# Altium integrated library Capacitor - Aluminium TH.IntLib: 4591 symbols (part 43 of 68)
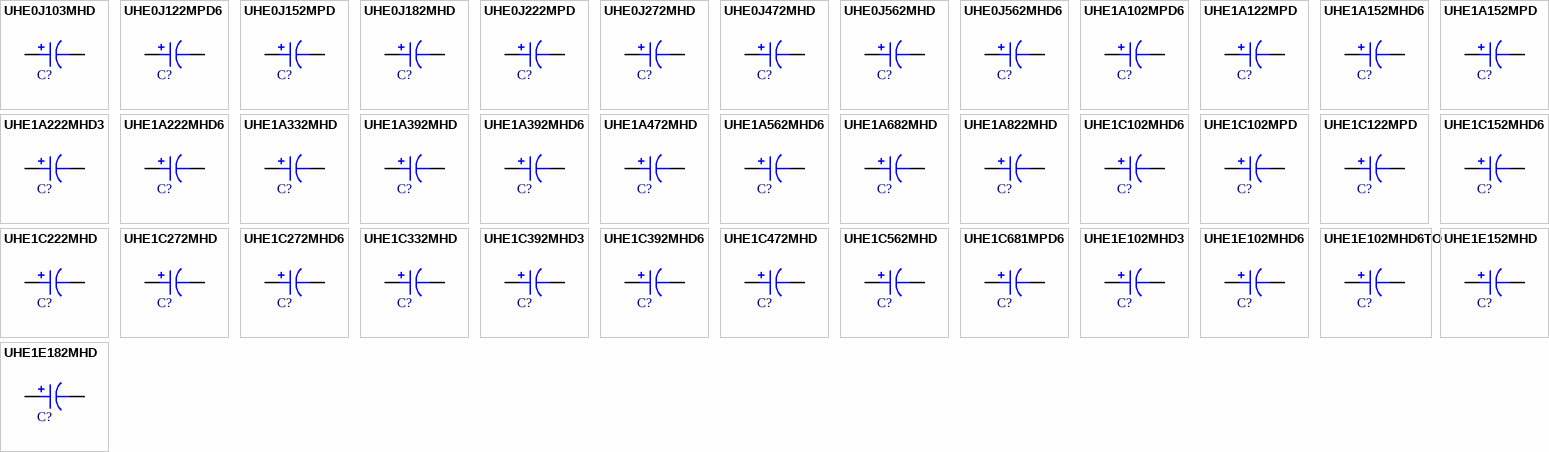
[diagram p156: symbols UHE0J103MHD to UHE1E182MHD]

## UHE0J272MHD
designator C?, comment 2700uF  (value not drawn)
CAP ALUM 2700UF 20% 6.3V RADIAL; Part Number: UHE0J272MHD; Manufacturer: Nichicon; TemperatureRange: -40C ~ 105C; Type: Polar; Ripple Current: 1.552A @ 120Hz; Impedance: 42 mOhm; Value: 2700uF; PartId: 26207; Supplier 1: Digi-Key; Supplier Part Number 1: 493-1474-ND; ComponentLink1Description: Datasheet; ComponentLink1URL: http://nichicon-us.com/english/products/pdfs/e-uhe.pdf; ComponentLink2Description: Digi-Key Listing; ComponentLink2URL: https://www.digikey.com/product-detail/en/nichicon/UHE0J272MHD/493-1474-ND/589215; Tolerance: 20%; Voltage: 6.3V; Price: 0.76; Device Package: Radial, Can, 16mm
footprint CAP AL TH D16 L7.5 H16.5
pins: 1, 2

## UHE0J472MHD
designator C?, comment 4700uF  (value not drawn)
CAP ALUM 4700UF 20% 6.3V RADIAL; Part Number: UHE0J472MHD; Manufacturer: Nichicon; TemperatureRange: -40C ~ 105C; Type: Polar; Ripple Current: 2.12A @ 120Hz; Impedance: 24 mOhm; Value: 4700uF; PartId: 24243; Supplier 1: Digi-Key; Supplier Part Number 1: 493-1478-ND; ComponentLink1Description: Datasheet; ComponentLink1URL: http://nichicon-us.com/english/products/pdfs/e-uhe.pdf; ComponentLink2Description: Digi-Key Listing; ComponentLink2URL: https://www.digikey.com/product-detail/en/nichicon/UHE0J472MHD/493-1478-ND/589219; Tolerance: 20%; Voltage: 6.3V; Price: 1.01; Device Package: Radial, Can, 12.5mm
footprint CAP AL TH D12.5 L5 H35.5
pins: 1, 2

## UHE0J562MHD
designator C?, comment 5600uF  (value not drawn)
CAP ALUM 5600UF 20% 6.3V RADIAL; Part Number: UHE0J562MHD; Manufacturer: Nichicon; TemperatureRange: -40C ~ 105C; Type: Polar; Ripple Current: 2.304A @ 120Hz; Impedance: 20 mOhm; Value: 5600uF; PartId: 24231; Supplier 1: Digi-Key; Supplier Part Number 1: 493-1479-ND; ComponentLink1Description: Datasheet; ComponentLink1URL: http://nichicon-us.com/english/products/pdfs/e-uhe.pdf; ComponentLink2Description: Digi-Key Listing; ComponentLink2URL: https://www.digikey.com/product-detail/en/nichicon/UHE0J562MHD/493-1479-ND/589220; Tolerance: 20%; Voltage: 6.3V; Price: 0.98; Device Package: Radial, Can, 12.5mm
footprint CAP AL TH D12.5 L5 H35.5
pins: 1, 2

## UHE0J562MHD6
designator C?, comment 5600uF  (value not drawn)
CAP ALUM 5600UF 20% 6.3V RADIAL; Part Number: UHE0J562MHD6; Manufacturer: Nichicon; TemperatureRange: -40C ~ 105C; Type: Polar; Ripple Current: 2.024A @ 120Hz; Impedance: 27 mOhm; Value: 5600uF; PartId: 26284; Supplier 1: Digi-Key; Supplier Part Number 1: 493-1480-ND; ComponentLink1Description: Datasheet; ComponentLink1URL: http://nichicon-us.com/english/products/pdfs/e-uhe.pdf; ComponentLink2Description: Digi-Key Listing; ComponentLink2URL: https://www.digikey.com/product-detail/en/nichicon/UHE0J562MHD6/493-1480-ND/589221; Tolerance: 20%; Voltage: 6.3V; Price: 1; Device Package: Radial, Can, 16mm
footprint CAP AL TH D16 L7.5 H20
pins: 1, 2

## UHE1A102MPD6
designator C?, comment 1000uF  (value not drawn)
CAP ALUM 1000UF 20% 10V RADIAL; Part Number: UHE1A102MPD6; Manufacturer: Nichicon; TemperatureRange: -40C ~ 105C; Type: Polar; Ripple Current: 907.5mA @ 120Hz; Impedance: 60 mOhm; Value: 1000uF; PartId: 25242; Supplier 1: Digi-Key; Supplier Part Number 1: 493-1497-ND; ComponentLink1Description: Datasheet; ComponentLink1URL: http://nichicon-us.com/english/products/pdfs/e-uhe.pdf; ComponentLink2Description: Digi-Key Listing; ComponentLink2URL: https://www.digikey.com/product-detail/en/nichicon/UHE1A102MPD6/493-1497-ND/589238; Tolerance: 20%; Voltage: 10V; Price: 0.57; Device Package: Radial, Can, 10mm
footprint CAP AL TH D10 L5 H17.5
pins: 1, 2

## UHE1A122MPD
designator C?, comment 1200uF  (value not drawn)
CAP ALUM 1200UF 20% 10V RADIAL; Part Number: UHE1A122MPD; Manufacturer: Nichicon; TemperatureRange: -40C ~ 105C; Type: Polar; Ripple Current: 1.12A @ 120Hz; Impedance: 46 mOhm; Value: 1200uF; PartId: 25527; Supplier 1: Digi-Key; Supplier Part Number 1: 493-1498-ND; ComponentLink1Description: Datasheet; ComponentLink1URL: http://nichicon-us.com/english/products/pdfs/e-uhe.pdf; ComponentLink2Description: Digi-Key Listing; ComponentLink2URL: https://www.digikey.com/product-detail/en/nichicon/UHE1A122MPD/493-1498-ND/589239; Tolerance: 20%; Voltage: 10V; Price: 0.6; Device Package: Radial, Can, 10mm
footprint CAP AL TH D10 L5 H22
pins: 1, 2

## UHE1A152MHD6
designator C?, comment 1500uF  (value not drawn)
CAP ALUM 1500UF 20% 10V RADIAL; Part Number: UHE1A152MHD6; Manufacturer: Nichicon; TemperatureRange: -40C ~ 105C; Type: Polar; Ripple Current: 1.16A @ 120Hz; Impedance: 49 mOhm; Value: 1500uF; PartId: 22707; Supplier 1: Digi-Key; Supplier Part Number 1: 493-1500-ND; ComponentLink1Description: Datasheet; ComponentLink1URL: http://nichicon-us.com/english/products/pdfs/e-uhe.pdf; ComponentLink2Description: Digi-Key Listing; ComponentLink2URL: https://www.digikey.com/product-detail/en/nichicon/UHE1A152MHD6/493-1500-ND/589241; Tolerance: 20%; Voltage: 10V; Price: 0; Device Package: Radial, Can, 12.5mm
footprint CAP AL TH D12.5 L5 H15
pins: 1, 2

## UHE1A152MPD
designator C?, comment 1500uF  (value not drawn)
CAP ALUM 1500UF 20% 10V RADIAL; Part Number: UHE1A152MPD; Manufacturer: Nichicon; TemperatureRange: -40C ~ 105C; Type: Polar; Ripple Current: 1.32A @ 120Hz; Impedance: 42 mOhm; Value: 1500uF; PartId: 26056; Supplier 1: Digi-Key; Supplier Part Number 1: 493-1499-ND; ComponentLink1Description: Datasheet; ComponentLink1URL: http://nichicon-us.com/english/products/pdfs/e-uhe.pdf; ComponentLink2Description: Digi-Key Listing; ComponentLink2URL: https://www.digikey.com/product-detail/en/nichicon/UHE1A152MPD/493-1499-ND/589240; Tolerance: 20%; Voltage: 10V; Price: 0.66; Device Package: Radial, Can, 10mm
footprint CAP AL TH D10 L5 H30
pins: 1, 2

## UHE1A222MHD3
designator C?, comment 2200uF  (value not drawn)
CAP ALUM 2200UF 20% 10V RADIAL; Part Number: UHE1A222MHD3; Manufacturer: Nichicon; TemperatureRange: -40C ~ 105C; Type: Polar; Ripple Current: 1.552A @ 120Hz; Impedance: 42 mOhm; Value: 2200uF; PartId: 26257; Supplier 1: Digi-Key; Supplier Part Number 1: 493-1503-ND; ComponentLink1Description: Datasheet; ComponentLink1URL: http://nichicon-us.com/english/products/pdfs/e-uhe.pdf; ComponentLink2Description: Digi-Key Listing; ComponentLink2URL: https://www.digikey.com/product-detail/en/nichicon/UHE1A222MHD3/493-1503-ND/589244; Tolerance: 20%; Voltage: 10V; Price: 0.94; Device Package: Radial, Can, 16mm
footprint CAP AL TH D16 L7.5 H16.5
pins: 1, 2

## UHE1A222MHD6
designator C?, comment 2200uF  (value not drawn)
CAP ALUM 2200UF 20% 10V RADIAL; Part Number: UHE1A222MHD6; Manufacturer: Nichicon; TemperatureRange: -40C ~ 105C; Type: Polar; Ripple Current: 1.52A @ 120Hz; Impedance: 35 mOhm; Value: 2200uF; PartId: 23339; Supplier 1: Digi-Key; Supplier Part Number 1: 493-1502-ND; ComponentLink1Description: Datasheet; ComponentLink1URL: http://nichicon-us.com/english/products/pdfs/e-uhe.pdf; ComponentLink2Description: Digi-Key Listing; ComponentLink2URL: https://www.digikey.com/product-detail/en/nichicon/UHE1A222MHD6/493-1502-ND/589243; Tolerance: 20%; Voltage: 10V; Price: 0.84; Device Package: Radial, Can, 12.5mm
footprint CAP AL TH D12.5 L5 H22
pins: 1, 2

## UHE1A332MHD
designator C?, comment 3300uF  (value not drawn)
CAP ALUM 3300UF 20% 10V RADIAL; Part Number: UHE1A332MHD; Manufacturer: Nichicon; TemperatureRange: -40C ~ 105C; Type: Polar; Ripple Current: 1.784A @ 120Hz; Impedance: 27 mOhm; Value: 3300uF; PartId: 23546; Supplier 1: Digi-Key; Supplier Part Number 1: 493-1505-ND; ComponentLink1Description: Datasheet; ComponentLink1URL: http://nichicon-us.com/english/products/pdfs/e-uhe.pdf; ComponentLink2Description: Digi-Key Listing; ComponentLink2URL: https://www.digikey.com/product-detail/en/nichicon/UHE1A332MHD/493-1505-ND/589246; Tolerance: 20%; Voltage: 10V; Price: 0.83; Device Package: Radial, Can, 12.5mm
footprint CAP AL TH D12.5 L5 H25
pins: 1, 2

## UHE1A392MHD
designator C?, comment 3900uF  (value not drawn)
CAP ALUM 3900UF 20% 10V RADIAL; Part Number: UHE1A392MHD; Manufacturer: Nichicon; TemperatureRange: -40C ~ 105C; Type: Polar; Ripple Current: 2.12A @ 120Hz; Impedance: 24 mOhm; Value: 3900uF; PartId: 24233; Supplier 1: Digi-Key; Supplier Part Number 1: 493-1506-ND; ComponentLink1Description: Datasheet; ComponentLink1URL: http://nichicon-us.com/english/products/pdfs/e-uhe.pdf; ComponentLink2Description: Digi-Key Listing; ComponentLink2URL: https://www.digikey.com/product-detail/en/nichicon/UHE1A392MHD/493-1506-ND/589247; Tolerance: 20%; Voltage: 10V; Price: 0.98; Device Package: Radial, Can, 12.5mm
footprint CAP AL TH D12.5 L5 H35.5
pins: 1, 2

## UHE1A392MHD6
designator C?, comment 3900uF  (value not drawn)
CAP ALUM 3900UF 20% 10V RADIAL; Part Number: UHE1A392MHD6; Manufacturer: Nichicon; TemperatureRange: -40C ~ 105C; Type: Polar; Ripple Current: 2.024A @ 120Hz; Impedance: 27 mOhm; Value: 3900uF; PartId: 26281; Supplier 1: Digi-Key; Supplier Part Number 1: 493-1507-ND; ComponentLink1Description: Datasheet; ComponentLink1URL: http://nichicon-us.com/english/products/pdfs/e-uhe.pdf; ComponentLink2Description: Digi-Key Listing; ComponentLink2URL: https://www.digikey.com/product-detail/en/nichicon/UHE1A392MHD6/493-1507-ND/589248; Tolerance: 20%; Voltage: 10V; Price: 0.98; Device Package: Radial, Can, 16mm
footprint CAP AL TH D16 L7.5 H20
pins: 1, 2

## UHE1A472MHD
designator C?, comment 4700uF  (value not drawn)
CAP ALUM 4700UF 20% 10V RADIAL; Part Number: UHE1A472MHD; Manufacturer: Nichicon; TemperatureRange: -40C ~ 105C; Type: Polar; Ripple Current: 2.304A @ 120Hz; Impedance: 20 mOhm; Value: 4700uF; PartId: 24274; Supplier 1: Digi-Key; Supplier Part Number 1: 493-1508-ND; ComponentLink1Description: Datasheet; ComponentLink1URL: http://nichicon-us.com/english/products/pdfs/e-uhe.pdf; ComponentLink2Description: Digi-Key Listing; ComponentLink2URL: https://www.digikey.com/product-detail/en/nichicon/UHE1A472MHD/493-1508-ND/589249; Tolerance: 20%; Voltage: 10V; Price: 1.07; Device Package: Radial, Can, 12.5mm
footprint CAP AL TH D12.5 L5 H35.5
pins: 1, 2

## UHE1A562MHD6
designator C?, comment 5600uF  (value not drawn)
CAP ALUM 5600UF 20% 10V RADIAL; Part Number: UHE1A562MHD6; Manufacturer: Nichicon; TemperatureRange: -40C ~ 105C; Type: Polar; Ripple Current: 2.344A @ 120Hz; Impedance: 21 mOhm; Value: 5600uF; PartId: 26603; Supplier 1: Digi-Key; Supplier Part Number 1: 493-1510-ND; ComponentLink1Description: Datasheet; ComponentLink1URL: http://nichicon-us.com/english/products/pdfs/e-uhe.pdf; ComponentLink2Description: Digi-Key Listing; ComponentLink2URL: https://www.digikey.com/product-detail/en/nichicon/UHE1A562MHD6/493-1510-ND/589251; Tolerance: 20%; Voltage: 10V; Price: 1.34; Device Package: Radial, Can, 16mm
footprint CAP AL TH D16 L7.5 H26.5
pins: 1, 2

## UHE1A682MHD
designator C?, comment 6800uF  (value not drawn)
CAP ALUM 6800UF 20% 10V RADIAL; Part Number: UHE1A682MHD; Manufacturer: Nichicon; TemperatureRange: -40C ~ 105C; Type: Polar; Ripple Current: 2.76A @ 120Hz; Impedance: 17 mOhm; Value: 6800uF; PartId: 27034; Supplier 1: Digi-Key; Supplier Part Number 1: 493-1512-ND; ComponentLink1Description: Datasheet; ComponentLink1URL: http://nichicon-us.com/english/products/pdfs/e-uhe.pdf; ComponentLink2Description: Digi-Key Listing; ComponentLink2URL: https://www.digikey.com/product-detail/en/nichicon/UHE1A682MHD/493-1512-ND/589253; Tolerance: 20%; Voltage: 10V; Price: 1.52; Device Package: Radial, Can, 16mm
footprint CAP AL TH D16 L7.5 H33.5
pins: 1, 2

## UHE1A822MHD
designator C?, comment 8200uF  (value not drawn)
CAP ALUM 8200UF 20% 10V RADIAL; Part Number: UHE1A822MHD; Manufacturer: Nichicon; TemperatureRange: -40C ~ 105C; Type: Polar; Ripple Current: 2.888A @ 120Hz; Impedance: 15 mOhm; Value: 8200uF; PartId: 27376; Supplier 1: Digi-Key; Supplier Part Number 1: 493-1514-ND; ComponentLink1Description: Datasheet; ComponentLink1URL: http://nichicon-us.com/english/products/pdfs/e-uhe.pdf; ComponentLink2Description: Digi-Key Listing; ComponentLink2URL: https://www.digikey.com/product-detail/en/nichicon/UHE1A822MHD/493-1514-ND/589255; Tolerance: 20%; Voltage: 10V; Price: 1.81; Device Package: Radial, Can, 16mm
footprint CAP AL TH D16 L7.5 H37
pins: 1, 2

## UHE1C102MHD6
designator C?, comment 1000uF  (value not drawn)
CAP ALUM 1000UF 20% 16V RADIAL; Part Number: UHE1C102MHD6; Manufacturer: Nichicon; TemperatureRange: -40C ~ 105C; Type: Polar; Ripple Current: 1.0875A @ 120Hz; Impedance: 49 mOhm; Value: 1000uF; PartId: 22708; Supplier 1: Digi-Key; Supplier Part Number 1: 493-1527-ND; ComponentLink1Description: Datasheet; ComponentLink1URL: http://nichicon-us.com/english/products/pdfs/e-uhe.pdf; ComponentLink2Description: Digi-Key Listing; ComponentLink2URL: https://www.digikey.com/product-detail/en/nichicon/UHE1C102MHD6/493-1527-ND/589268; Tolerance: 20%; Voltage: 16V; Price: 0; Device Package: Radial, Can, 12.5mm
footprint CAP AL TH D12.5 L5 H15
pins: 1, 2

## UHE1C102MPD
designator C?, comment 1000uF  (value not drawn)
CAP ALUM 1000UF 20% 16V RADIAL; Part Number: UHE1C102MPD; Manufacturer: Nichicon; TemperatureRange: -40C ~ 105C; Type: Polar; Ripple Current: 1.05A @ 120Hz; Impedance: 46 mOhm; Value: 1000uF; PartId: 25530; Supplier 1: Digi-Key; Supplier Part Number 1: 493-1526-ND; ComponentLink1Description: Datasheet; ComponentLink1URL: http://nichicon-us.com/english/products/pdfs/e-uhe.pdf; ComponentLink2Description: Digi-Key Listing; ComponentLink2URL: https://www.digikey.com/product-detail/en/nichicon/UHE1C102MPD/493-1526-ND/589267; Tolerance: 20%; Voltage: 16V; Price: 0.61; Device Package: Radial, Can, 10mm
footprint CAP AL TH D10 L5 H22
pins: 1, 2

## UHE1C122MPD
designator C?, comment 1200uF  (value not drawn)
CAP ALUM 1200UF 20% 16V RADIAL; Part Number: UHE1C122MPD; Manufacturer: Nichicon; TemperatureRange: -40C ~ 105C; Type: Polar; Ripple Current: 1.32A @ 120Hz; Impedance: 42 mOhm; Value: 1200uF; PartId: 26150; Supplier 1: Digi-Key; Supplier Part Number 1: 493-1528-ND; ComponentLink1Description: Datasheet; ComponentLink1URL: http://nichicon-us.com/english/products/pdfs/e-uhe.pdf; ComponentLink2Description: Digi-Key Listing; ComponentLink2URL: https://www.digikey.com/product-detail/en/nichicon/UHE1C122MPD/493-1528-ND/589269; Tolerance: 20%; Voltage: 16V; Price: 0.85; Device Package: Radial, Can, 10mm
footprint CAP AL TH D10 L5 H30
pins: 1, 2

## UHE1C152MHD6
designator C?, comment 1500uF  (value not drawn)
CAP ALUM 1500UF 20% 16V RADIAL; Part Number: UHE1C152MHD6; Manufacturer: Nichicon; TemperatureRange: -40C ~ 105C; Type: Polar; Ripple Current: 1.52A @ 120Hz; Impedance: 35 mOhm; Value: 1500uF; PartId: 22900; Supplier 1: Digi-Key; Supplier Part Number 1: 493-1530-ND; ComponentLink1Description: Datasheet; ComponentLink1URL: http://nichicon-us.com/english/products/pdfs/e-uhe.pdf; ComponentLink2Description: Digi-Key Listing; ComponentLink2URL: https://www.digikey.com/product-detail/en/nichicon/UHE1C152MHD6/493-1530-ND/589271; Tolerance: 20%; Voltage: 16V; Price: 0; Device Package: Radial, Can, 12.5mm
footprint CAP AL TH D12.5 L5 H20
pins: 1, 2

## UHE1C222MHD
designator C?, comment 2200uF  (value not drawn)
CAP ALUM 2200UF 20% 16V RADIAL; Part Number: UHE1C222MHD; Manufacturer: Nichicon; TemperatureRange: -40C ~ 105C; Type: Polar; Ripple Current: 1.784A @ 120Hz; Impedance: 27 mOhm; Value: 2200uF; PartId: 23572; Supplier 1: Digi-Key; Supplier Part Number 1: 493-1532-ND; ComponentLink1Description: Datasheet; ComponentLink1URL: http://nichicon-us.com/english/products/pdfs/e-uhe.pdf; ComponentLink2Description: Digi-Key Listing; ComponentLink2URL: https://www.digikey.com/product-detail/en/nichicon/UHE1C222MHD/493-1532-ND/589273; Tolerance: 20%; Voltage: 16V; Price: 0.96; Device Package: Radial, Can, 12.5mm
footprint CAP AL TH D12.5 L5 H25
pins: 1, 2

## UHE1C272MHD
designator C?, comment 2700uF  (value not drawn)
CAP ALUM 2700UF 20% 16V RADIAL; Part Number: UHE1C272MHD; Manufacturer: Nichicon; TemperatureRange: -40C ~ 105C; Type: Polar; Ripple Current: 2.12A @ 120Hz; Impedance: 24 mOhm; Value: 2700uF; PartId: 24215; Supplier 1: Digi-Key; Supplier Part Number 1: 493-1534-ND; ComponentLink1Description: Datasheet; ComponentLink1URL: http://nichicon-us.com/english/products/pdfs/e-uhe.pdf; ComponentLink2Description: Digi-Key Listing; ComponentLink2URL: https://www.digikey.com/product-detail/en/nichicon/UHE1C272MHD/493-1534-ND/589275; Tolerance: 20%; Voltage: 16V; Price: 0.95; Device Package: Radial, Can, 12.5mm
footprint CAP AL TH D12.5 L5 H35.5
pins: 1, 2

## UHE1C272MHD6
designator C?, comment 2700uF  (value not drawn)
CAP ALUM 2700UF 20% 16V RADIAL; Part Number: UHE1C272MHD6; Manufacturer: Nichicon; TemperatureRange: -40C ~ 105C; Type: Polar; Ripple Current: 2.024A @ 120Hz; Impedance: 27 mOhm; Value: 2700uF; PartId: 26278; Supplier 1: Digi-Key; Supplier Part Number 1: 493-1535-ND; ComponentLink1Description: Datasheet; ComponentLink1URL: http://nichicon-us.com/english/products/pdfs/e-uhe.pdf; ComponentLink2Description: Digi-Key Listing; ComponentLink2URL: https://www.digikey.com/product-detail/en/nichicon/UHE1C272MHD6/493-1535-ND/589276; Tolerance: 20%; Voltage: 16V; Price: 0.95; Device Package: Radial, Can, 16mm
footprint CAP AL TH D16 L7.5 H20
pins: 1, 2

## UHE1C332MHD
designator C?, comment 3300uF  (value not drawn)
CAP ALUM 3300UF 20% 16V RADIAL; Part Number: UHE1C332MHD; Manufacturer: Nichicon; TemperatureRange: -40C ~ 105C; Type: Polar; Ripple Current: 2.304A @ 120Hz; Impedance: 20 mOhm; Value: 3300uF; PartId: 24276; Supplier 1: Digi-Key; Supplier Part Number 1: 493-1536-ND; ComponentLink1Description: Datasheet; ComponentLink1URL: http://nichicon-us.com/english/products/pdfs/e-uhe.pdf; ComponentLink2Description: Digi-Key Listing; ComponentLink2URL: https://www.digikey.com/product-detail/en/nichicon/UHE1C332MHD/493-1536-ND/589277; Tolerance: 20%; Voltage: 16V; Price: 1.08; Device Package: Radial, Can, 12.5mm
footprint CAP AL TH D12.5 L5 H35.5
pins: 1, 2

## UHE1C392MHD3
designator C?, comment 3900uF  (value not drawn)
CAP ALUM 3900UF 20% 16V RADIAL; Part Number: UHE1C392MHD3; Manufacturer: Nichicon; TemperatureRange: -40C ~ 105C; Type: Polar; Ripple Current: 2.288A @ 120Hz; Impedance: 26 mOhm; Value: 3900uF; PartId: 26311; Supplier 1: Digi-Key; Supplier Part Number 1: 493-1539-ND; ComponentLink1Description: Datasheet; ComponentLink1URL: http://nichicon-us.com/english/products/pdfs/e-uhe.pdf; ComponentLink2Description: Digi-Key Listing; ComponentLink2URL: https://www.digikey.com/product-detail/en/nichicon/UHE1C392MHD3/493-1539-ND/589280; Tolerance: 20%; Voltage: 16V; Price: 1.2; Device Package: Radial, Can, 16mm
footprint CAP AL TH D16 L7.5 H20
pins: 1, 2

## UHE1C392MHD6
designator C?, comment 3900uF  (value not drawn)
CAP ALUM 3900UF 20% 16V RADIAL; Part Number: UHE1C392MHD6; Manufacturer: Nichicon; TemperatureRange: -40C ~ 105C; Type: Polar; Ripple Current: 2.344A @ 120Hz; Impedance: 21 mOhm; Value: 3900uF; PartId: 26650; Supplier 1: Digi-Key; Supplier Part Number 1: 493-1538-ND; ComponentLink1Description: Datasheet; ComponentLink1URL: http://nichicon-us.com/english/products/pdfs/e-uhe.pdf; ComponentLink2Description: Digi-Key Listing; ComponentLink2URL: https://www.digikey.com/product-detail/en/nichicon/UHE1C392MHD6/493-1538-ND/589279; Tolerance: 20%; Voltage: 16V; Price: 1.55; Device Package: Radial, Can, 16mm
footprint CAP AL TH D16 L7.5 H26.5
pins: 1, 2

## UHE1C472MHD
designator C?, comment 4700uF  (value not drawn)
CAP ALUM 4700UF 20% 16V RADIAL; Part Number: UHE1C472MHD; Manufacturer: Nichicon; TemperatureRange: -40C ~ 105C; Type: Polar; Ripple Current: 2.76A @ 120Hz; Impedance: 17 mOhm; Value: 4700uF; PartId: 27029; Supplier 1: Digi-Key; Supplier Part Number 1: 493-1540-ND; ComponentLink1Description: Datasheet; ComponentLink1URL: http://nichicon-us.com/english/products/pdfs/e-uhe.pdf; ComponentLink2Description: Digi-Key Listing; ComponentLink2URL: https://www.digikey.com/product-detail/en/nichicon/UHE1C472MHD/493-1540-ND/589281; Tolerance: 20%; Voltage: 16V; Price: 1.5; Device Package: Radial, Can, 16mm
footprint CAP AL TH D16 L7.5 H33.5
pins: 1, 2

## UHE1C562MHD
designator C?, comment 5600uF  (value not drawn)
CAP ALUM 5600UF 20% 16V RADIAL; Part Number: UHE1C562MHD; Manufacturer: Nichicon; TemperatureRange: -40C ~ 105C; Type: Polar; Ripple Current: 2.888A @ 120Hz; Impedance: 15 mOhm; Value: 5600uF; PartId: 27396; Supplier 1: Digi-Key; Supplier Part Number 1: 493-1542-ND; ComponentLink1Description: Datasheet; ComponentLink1URL: http://nichicon-us.com/english/products/pdfs/e-uhe.pdf; ComponentLink2Description: Digi-Key Listing; ComponentLink2URL: https://www.digikey.com/product-detail/en/nichicon/UHE1C562MHD/493-1542-ND/589283; Tolerance: 20%; Voltage: 16V; Price: 2.02; Device Package: Radial, Can, 16mm
footprint CAP AL TH D16 L7.5 H37
pins: 1, 2

## UHE1C681MPD6
designator C?, comment 680uF  (value not drawn)
CAP ALUM 680UF 20% 16V RADIAL; Part Number: UHE1C681MPD6; Manufacturer: Nichicon; TemperatureRange: -40C ~ 105C; Type: Polar; Ripple Current: 907.5mA @ 120Hz; Impedance: 60 mOhm; Value: 680uF; PartId: 25260; Supplier 1: Digi-Key; Supplier Part Number 1: 493-1525-ND; ComponentLink1Description: Datasheet; ComponentLink1URL: http://nichicon-us.com/english/products/pdfs/e-uhe.pdf; ComponentLink2Description: Digi-Key Listing; ComponentLink2URL: https://www.digikey.com/product-detail/en/nichicon/UHE1C681MPD6/493-1525-ND/589266; Tolerance: 20%; Voltage: 16V; Price: 0.59; Device Package: Radial, Can, 10mm
footprint CAP AL TH D10 L5 H17.5
pins: 1, 2

## UHE1E102MHD3
designator C?, comment 1000uF  (value not drawn)
CAP ALUM 1000UF 20% 25V RADIAL; Part Number: UHE1E102MHD3; Manufacturer: Nichicon; TemperatureRange: -40C ~ 105C; Type: Polar; Ripple Current: 1.455A @ 120Hz; Impedance: 42 mOhm; Value: 1000uF; PartId: 26210; Supplier 1: Digi-Key; Supplier Part Number 1: 493-1559-ND; ComponentLink1Description: Datasheet; ComponentLink1URL: http://nichicon-us.com/english/products/pdfs/e-uhe.pdf; ComponentLink2Description: Digi-Key Listing; ComponentLink2URL: https://www.digikey.com/product-detail/en/nichicon/UHE1E102MHD3/493-1559-ND/589300; Tolerance: 20%; Voltage: 25V; Price: 0.97; Device Package: Radial, Can, 16mm
footprint CAP AL TH D16 L7.5 H16.5
pins: 1, 2

## UHE1E102MHD6
designator C?, comment 1000uF  (value not drawn)
CAP ALUM 1000UF 20% 25V RADIAL; Part Number: UHE1E102MHD6; Manufacturer: Nichicon; TemperatureRange: -40C ~ 105C; Type: Polar; Ripple Current: 1.425A @ 120Hz; Impedance: 35 mOhm; Value: 1000uF; PartId: 22893; Supplier 1: Digi-Key; Supplier Part Number 1: 493-1558-ND; ComponentLink1Description: Datasheet; ComponentLink1URL: http://nichicon-us.com/english/products/pdfs/e-uhe.pdf; ComponentLink2Description: Digi-Key Listing; ComponentLink2URL: https://www.digikey.com/product-detail/en/nichicon/UHE1E102MHD6/493-1558-ND/589299; Tolerance: 20%; Voltage: 25V; Price: 0; Device Package: Radial, Can, 12.5mm
footprint CAP AL TH D12.5 L5 H20
pins: 1, 2

## UHE1E102MHD6TO
designator C?, comment 1000uF  (value not drawn)
CAP ALUM 1000UF 20% 25V RADIAL; Part Number: UHE1E102MHD6TO; Manufacturer: Nichicon; TemperatureRange: -40C ~ 105C; Type: Polar; Ripple Current: 1.425A @ 120Hz; Impedance: 35 mOhm; Value: 1000uF; PartId: 23323; Supplier 1: Digi-Key; Supplier Part Number 1: 493-14544-1-ND; ComponentLink1Description: Datasheet; ComponentLink1URL: http://nichicon-us.com/english/products/pdfs/e-uhe.pdf; ComponentLink2Description: Digi-Key Listing; ComponentLink2URL: https://www.digikey.com/product-detail/en/nichicon/UHE1E102MHD6TO/493-14544-1-ND/5800244; Tolerance: 20%; Voltage: 25V; Price: 0.82; Device Package: Radial, Can, 12.5mm
footprint CAP AL TH D12.5 L5 H22
pins: 1, 2

## UHE1E152MHD
designator C?, comment 1500uF  (value not drawn)
CAP ALUM 1500UF 20% 25V RADIAL; Part Number: UHE1E152MHD; Manufacturer: Nichicon; TemperatureRange: -40C ~ 105C; Type: Polar; Ripple Current: 1.784A @ 120Hz; Impedance: 27 mOhm; Value: 1500uF; PartId: 23554; Supplier 1: Digi-Key; Supplier Part Number 1: 493-1561-ND; ComponentLink1Description: Datasheet; ComponentLink1URL: http://nichicon-us.com/english/products/pdfs/e-uhe.pdf; ComponentLink2Description: Digi-Key Listing; ComponentLink2URL: https://www.digikey.com/product-detail/en/nichicon/UHE1E152MHD/493-1561-ND/589302; Tolerance: 20%; Voltage: 25V; Price: 0.86; Device Package: Radial, Can, 12.5mm
footprint CAP AL TH D12.5 L5 H25
pins: 1, 2

## UHE1E182MHD
designator C?, comment 1800uF  (value not drawn)
CAP ALUM 1800UF 20% 25V RADIAL; Part Number: UHE1E182MHD; Manufacturer: Nichicon; TemperatureRange: -40C ~ 105C; Type: Polar; Ripple Current: 2.12A @ 120Hz; Impedance: 24 mOhm; Value: 1800uF; PartId: 24214; Supplier 1: Digi-Key; Supplier Part Number 1: 493-1562-ND; ComponentLink1Description: Datasheet; ComponentLink1URL: http://nichicon-us.com/english/products/pdfs/e-uhe.pdf; ComponentLink2Description: Digi-Key Listing; ComponentLink2URL: https://www.digikey.com/product-detail/en/nichicon/UHE1E182MHD/493-1562-ND/589303; Tolerance: 20%; Voltage: 25V; Price: 0.95; Device Package: Radial, Can, 12.5mm
footprint CAP AL TH D12.5 L5 H35.5
pins: 1, 2

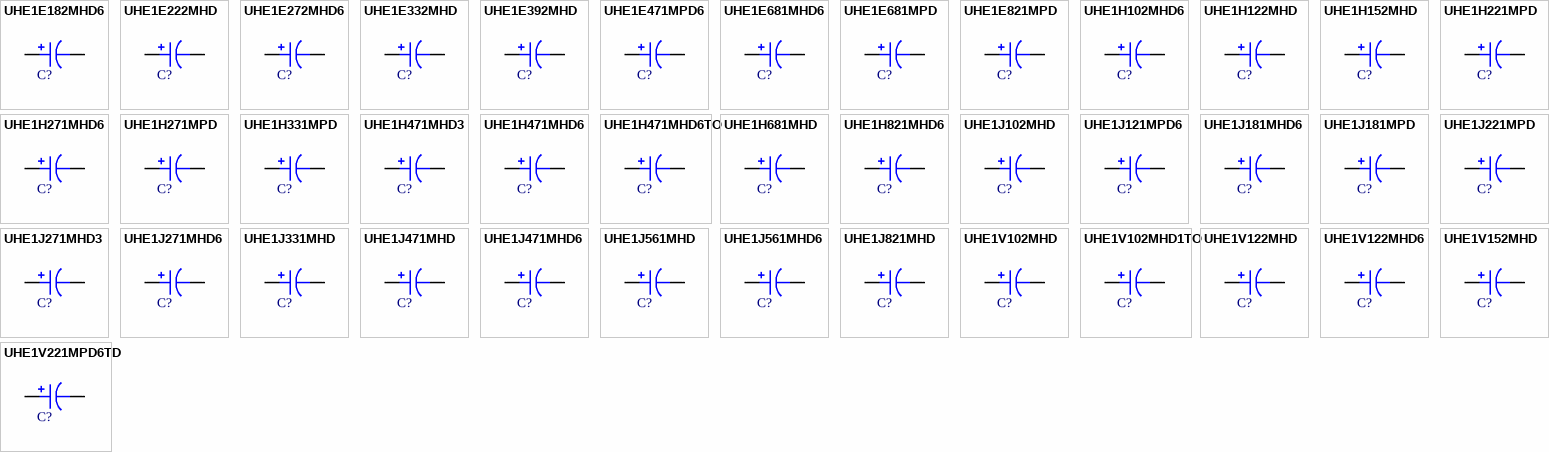
[diagram p71: symbols UHE1E182MHD6 to UHE1V221MPD6TD]

## UHE1E182MHD6
designator C?, comment 1800uF  (value not drawn)
CAP ALUM 1800UF 20% 25V RADIAL; Part Number: UHE1E182MHD6; Manufacturer: Nichicon; TemperatureRange: -40C ~ 105C; Type: Polar; Ripple Current: 2.024A @ 120Hz; Impedance: 27 mOhm; Value: 1800uF; PartId: 26286; Supplier 1: Digi-Key; Supplier Part Number 1: 493-1563-ND; ComponentLink1Description: Datasheet; ComponentLink1URL: http://nichicon-us.com/english/products/pdfs/e-uhe.pdf; ComponentLink2Description: Digi-Key Listing; ComponentLink2URL: https://www.digikey.com/product-detail/en/nichicon/UHE1E182MHD6/493-1563-ND/589304; Tolerance: 20%; Voltage: 25V; Price: 1.03; Device Package: Radial, Can, 16mm
footprint CAP AL TH D16 L7.5 H20
pins: 1, 2

## UHE1E222MHD
designator C?, comment 2200uF  (value not drawn)
CAP ALUM 2200UF 20% 25V RADIAL; Part Number: UHE1E222MHD; Manufacturer: Nichicon; TemperatureRange: -40C ~ 105C; Type: Polar; Ripple Current: 2.304A @ 120Hz; Impedance: 20 mOhm; Value: 2200uF; PartId: 24286; Supplier 1: Digi-Key; Supplier Part Number 1: 493-1564-ND; ComponentLink1Description: Datasheet; ComponentLink1URL: http://nichicon-us.com/english/products/pdfs/e-uhe.pdf; ComponentLink2Description: Digi-Key Listing; ComponentLink2URL: https://www.digikey.com/product-detail/en/nichicon/UHE1E222MHD/493-1564-ND/589305; Tolerance: 20%; Voltage: 25V; Price: 1.12; Device Package: Radial, Can, 12.5mm
footprint CAP AL TH D12.5 L5 H35.5
pins: 1, 2

## UHE1E272MHD6
designator C?, comment 2700uF  (value not drawn)
CAP ALUM 2700UF 20% 25V RADIAL; Part Number: UHE1E272MHD6; Manufacturer: Nichicon; TemperatureRange: -40C ~ 105C; Type: Polar; Ripple Current: 2.344A @ 120Hz; Impedance: 21 mOhm; Value: 2700uF; PartId: 26590; Supplier 1: Digi-Key; Supplier Part Number 1: 493-1567-ND; ComponentLink1Description: Datasheet; ComponentLink1URL: http://nichicon-us.com/english/products/pdfs/e-uhe.pdf; ComponentLink2Description: Digi-Key Listing; ComponentLink2URL: https://www.digikey.com/product-detail/en/nichicon/UHE1E272MHD6/493-1567-ND/589308; Tolerance: 20%; Voltage: 25V; Price: 1.28; Device Package: Radial, Can, 16mm
footprint CAP AL TH D16 L7.5 H26.5
pins: 1, 2

## UHE1E332MHD
designator C?, comment 3300uF  (value not drawn)
CAP ALUM 3300UF 20% 25V RADIAL; Part Number: UHE1E332MHD; Manufacturer: Nichicon; TemperatureRange: -40C ~ 105C; Type: Polar; Ripple Current: 2.76A @ 120Hz; Impedance: 17 mOhm; Value: 3300uF; PartId: 27048; Supplier 1: Digi-Key; Supplier Part Number 1: 493-1568-ND; ComponentLink1Description: Datasheet; ComponentLink1URL: http://nichicon-us.com/english/products/pdfs/e-uhe.pdf; ComponentLink2Description: Digi-Key Listing; ComponentLink2URL: https://www.digikey.com/product-detail/en/nichicon/UHE1E332MHD/493-1568-ND/589309; Tolerance: 20%; Voltage: 25V; Price: 1.56; Device Package: Radial, Can, 16mm
footprint CAP AL TH D16 L7.5 H33.5
pins: 1, 2

## UHE1E392MHD
designator C?, comment 3900uF  (value not drawn)
CAP ALUM 3900UF 20% 25V RADIAL; Part Number: UHE1E392MHD; Manufacturer: Nichicon; TemperatureRange: -40C ~ 105C; Type: Polar; Ripple Current: 2.888A @ 120Hz; Impedance: 15 mOhm; Value: 3900uF; PartId: 27385; Supplier 1: Digi-Key; Supplier Part Number 1: 493-1570-ND; ComponentLink1Description: Datasheet; ComponentLink1URL: http://nichicon-us.com/english/products/pdfs/e-uhe.pdf; ComponentLink2Description: Digi-Key Listing; ComponentLink2URL: https://www.digikey.com/product-detail/en/nichicon/UHE1E392MHD/493-1570-ND/589311; Tolerance: 20%; Voltage: 25V; Price: 1.86; Device Package: Radial, Can, 16mm
footprint CAP AL TH D16 L7.5 H37
pins: 1, 2

## UHE1E471MPD6
designator C?, comment 470uF  (value not drawn)
CAP ALUM 470UF 20% 25V RADIAL; Part Number: UHE1E471MPD6; Manufacturer: Nichicon; TemperatureRange: -40C ~ 105C; Type: Polar; Ripple Current: 907.5mA @ 120Hz; Impedance: 60 mOhm; Value: 470uF; PartId: 25226; Supplier 1: Digi-Key; Supplier Part Number 1: 493-1553-ND; ComponentLink1Description: Datasheet; ComponentLink1URL: http://nichicon-us.com/english/products/pdfs/e-uhe.pdf; ComponentLink2Description: Digi-Key Listing; ComponentLink2URL: https://www.digikey.com/product-detail/en/nichicon/UHE1E471MPD6/493-1553-ND/589294; Tolerance: 20%; Voltage: 25V; Price: 0.55; Device Package: Radial, Can, 10mm
footprint CAP AL TH D10 L5 H17.5
pins: 1, 2

## UHE1E681MHD6
designator C?, comment 680uF  (value not drawn)
CAP ALUM 680UF 20% 25V RADIAL; Part Number: UHE1E681MHD6; Manufacturer: Nichicon; TemperatureRange: -40C ~ 105C; Type: Polar; Ripple Current: 1.0875A @ 120Hz; Impedance: 49 mOhm; Value: 680uF; PartId: 22710; Supplier 1: Digi-Key; Supplier Part Number 1: 493-1555-ND; ComponentLink1Description: Datasheet; ComponentLink1URL: http://nichicon-us.com/english/products/pdfs/e-uhe.pdf; ComponentLink2Description: Digi-Key Listing; ComponentLink2URL: https://www.digikey.com/product-detail/en/nichicon/UHE1E681MHD6/493-1555-ND/589296; Tolerance: 20%; Voltage: 25V; Price: 0; Device Package: Radial, Can, 12.5mm
footprint CAP AL TH D12.5 L5 H15
pins: 1, 2

## UHE1E681MPD
designator C?, comment 680uF  (value not drawn)
CAP ALUM 680UF 20% 25V RADIAL; Part Number: UHE1E681MPD; Manufacturer: Nichicon; TemperatureRange: -40C ~ 105C; Type: Polar; Ripple Current: 1.05A @ 120Hz; Impedance: 46 mOhm; Value: 680uF; PartId: 25611; Supplier 1: Digi-Key; Supplier Part Number 1: 493-1554-ND; ComponentLink1Description: Datasheet; ComponentLink1URL: http://nichicon-us.com/english/products/pdfs/e-uhe.pdf; ComponentLink2Description: Digi-Key Listing; ComponentLink2URL: https://www.digikey.com/product-detail/en/nichicon/UHE1E681MPD/493-1554-ND/589295; Tolerance: 20%; Voltage: 25V; Price: 0.7; Device Package: Radial, Can, 10mm
footprint CAP AL TH D10 L5 H22
pins: 1, 2

## UHE1E821MPD
designator C?, comment 820uF  (value not drawn)
CAP ALUM 820UF 20% 25V RADIAL; Part Number: UHE1E821MPD; Manufacturer: Nichicon; TemperatureRange: -40C ~ 105C; Type: Polar; Ripple Current: 1.2375A @ 120Hz; Impedance: 42 mOhm; Value: 820uF; PartId: 26089; Supplier 1: Digi-Key; Supplier Part Number 1: 493-1556-ND; ComponentLink1Description: Datasheet; ComponentLink1URL: http://nichicon-us.com/english/products/pdfs/e-uhe.pdf; ComponentLink2Description: Digi-Key Listing; ComponentLink2URL: https://www.digikey.com/product-detail/en/nichicon/UHE1E821MPD/493-1556-ND/589297; Tolerance: 20%; Voltage: 25V; Price: 0.74; Device Package: Radial, Can, 10mm
footprint CAP AL TH D10 L5 H30
pins: 1, 2

## UHE1H102MHD6
designator C?, comment 1000uF  (value not drawn)
CAP ALUM 1000UF 20% 50V RADIAL; Part Number: UHE1H102MHD6; Manufacturer: Nichicon; TemperatureRange: -40C ~ 105C; Type: Polar; Ripple Current: 1.916A @ 120Hz; Impedance: 25 mOhm; Value: 1000uF; PartId: 26600; Supplier 1: Digi-Key; Supplier Part Number 1: 493-1622-ND; ComponentLink1Description: Datasheet; ComponentLink1URL: http://nichicon-us.com/english/products/pdfs/e-uhe.pdf; ComponentLink2Description: Digi-Key Listing; ComponentLink2URL: https://www.digikey.com/product-detail/en/nichicon/UHE1H102MHD6/493-1622-ND/589363; Tolerance: 20%; Voltage: 50V; Price: 1.33; Device Package: Radial, Can, 16mm
footprint CAP AL TH D16 L7.5 H26.5
pins: 1, 2

## UHE1H122MHD
designator C?, comment 1200uF  (value not drawn)
CAP ALUM 1200UF 20% 50V RADIAL; Part Number: UHE1H122MHD; Manufacturer: Nichicon; TemperatureRange: -40C ~ 105C; Type: Polar; Ripple Current: 2.408A @ 120Hz; Impedance: 22 mOhm; Value: 1200uF; PartId: 27024; Supplier 1: Digi-Key; Supplier Part Number 1: 493-1624-ND; ComponentLink1Description: Datasheet; ComponentLink1URL: http://nichicon-us.com/english/products/pdfs/e-uhe.pdf; ComponentLink2Description: Digi-Key Listing; ComponentLink2URL: https://www.digikey.com/product-detail/en/nichicon/UHE1H122MHD/493-1624-ND/589365; Tolerance: 20%; Voltage: 50V; Price: 1.48; Device Package: Radial, Can, 16mm
footprint CAP AL TH D16 L7.5 H33.5
pins: 1, 2

## UHE1H152MHD
designator C?, comment 1500uF  (value not drawn)
CAP ALUM 1500UF 20% 50V RADIAL; Part Number: UHE1H152MHD; Manufacturer: Nichicon; TemperatureRange: -40C ~ 105C; Type: Polar; Ripple Current: 2.52A @ 120Hz; Impedance: 19 mOhm; Value: 1500uF; PartId: 27334; Supplier 1: Digi-Key; Supplier Part Number 1: 493-1626-ND; ComponentLink1Description: Datasheet; ComponentLink1URL: http://nichicon-us.com/english/products/pdfs/e-uhe.pdf; ComponentLink2Description: Digi-Key Listing; ComponentLink2URL: https://www.digikey.com/product-detail/en/nichicon/UHE1H152MHD/493-1626-ND/589367; Tolerance: 20%; Voltage: 50V; Price: 1.63; Device Package: Radial, Can, 16mm
footprint CAP AL TH D16 L7.5 H37
pins: 1, 2

## UHE1H221MPD
designator C?, comment 220uF  (value not drawn)
CAP ALUM 220UF 20% 50V RADIAL; Part Number: UHE1H221MPD; Manufacturer: Nichicon; TemperatureRange: -40C ~ 105C; Type: Polar; Ripple Current: 735mA @ 120Hz; Impedance: 84 mOhm; Value: 220uF; PartId: 25175; Supplier 1: Digi-Key; Supplier Part Number 1: 493-1609-ND; ComponentLink1Description: Datasheet; ComponentLink1URL: http://nichicon-us.com/english/products/pdfs/e-uhe.pdf; ComponentLink2Description: Digi-Key Listing; ComponentLink2URL: https://www.digikey.com/product-detail/en/nichicon/UHE1H221MPD/493-1609-ND/589350; Tolerance: 20%; Voltage: 50V; Price: 0.46; Device Package: Radial, Can, 10mm
footprint CAP AL TH D10 L5 H17.5
pins: 1, 2

## UHE1H271MHD6
designator C?, comment 270uF  (value not drawn)
CAP ALUM 270UF 20% 50V RADIAL; Part Number: UHE1H271MHD6; Manufacturer: Nichicon; TemperatureRange: -40C ~ 105C; Type: Polar; Ripple Current: 882mA @ 120Hz; Impedance: 61 mOhm; Value: 270uF; PartId: 22705; Supplier 1: Digi-Key; Supplier Part Number 1: 493-1611-ND; ComponentLink1Description: Datasheet; ComponentLink1URL: http://nichicon-us.com/english/products/pdfs/e-uhe.pdf; ComponentLink2Description: Digi-Key Listing; ComponentLink2URL: https://www.digikey.com/product-detail/en/nichicon/UHE1H271MHD6/493-1611-ND/589352; Tolerance: 20%; Voltage: 50V; Price: 0; Device Package: Radial, Can, 12.5mm
footprint CAP AL TH D12.5 L5 H15
pins: 1, 2

## UHE1H271MPD
designator C?, comment 270uF  (value not drawn)
CAP ALUM 270UF 20% 50V RADIAL; Part Number: UHE1H271MPD; Manufacturer: Nichicon; TemperatureRange: -40C ~ 105C; Type: Polar; Ripple Current: 854mA @ 120Hz; Impedance: 60 mOhm; Value: 270uF; PartId: 25613; Supplier 1: Digi-Key; Supplier Part Number 1: 493-1610-ND; ComponentLink1Description: Datasheet; ComponentLink1URL: http://nichicon-us.com/english/products/pdfs/e-uhe.pdf; ComponentLink2Description: Digi-Key Listing; ComponentLink2URL: https://www.digikey.com/product-detail/en/nichicon/UHE1H271MPD/493-1610-ND/589351; Tolerance: 20%; Voltage: 50V; Price: 0.7; Device Package: Radial, Can, 10mm
footprint CAP AL TH D10 L5 H22
pins: 1, 2

## UHE1H331MPD
designator C?, comment 330uF  (value not drawn)
CAP ALUM 330UF 20% 50V RADIAL; Part Number: UHE1H331MPD; Manufacturer: Nichicon; TemperatureRange: -40C ~ 105C; Type: Polar; Ripple Current: 1.008A @ 120Hz; Impedance: 55 mOhm; Value: 330uF; PartId: 26090; Supplier 1: Digi-Key; Supplier Part Number 1: 493-1612-ND; ComponentLink1Description: Datasheet; ComponentLink1URL: http://nichicon-us.com/english/products/pdfs/e-uhe.pdf; ComponentLink2Description: Digi-Key Listing; ComponentLink2URL: https://www.digikey.com/product-detail/en/nichicon/UHE1H331MPD/493-1612-ND/589353; Tolerance: 20%; Voltage: 50V; Price: 0.74; Device Package: Radial, Can, 10mm
footprint CAP AL TH D10 L5 H30
pins: 1, 2

## UHE1H471MHD3
designator C?, comment 470uF  (value not drawn)
CAP ALUM 470UF 20% 50V RADIAL; Part Number: UHE1H471MHD3; Manufacturer: Nichicon; TemperatureRange: -40C ~ 105C; Type: Polar; Ripple Current: 1.183A @ 120Hz; Impedance: 55 mOhm; Value: 470uF; PartId: 26211; Supplier 1: Digi-Key; Supplier Part Number 1: 493-1615-ND; ComponentLink1Description: Datasheet; ComponentLink1URL: http://nichicon-us.com/english/products/pdfs/e-uhe.pdf; ComponentLink2Description: Digi-Key Listing; ComponentLink2URL: https://www.digikey.com/product-detail/en/nichicon/UHE1H471MHD3/493-1615-ND/589356; Tolerance: 20%; Voltage: 50V; Price: 0.98; Device Package: Radial, Can, 16mm
footprint CAP AL TH D16 L7.5 H16.5
pins: 1, 2

## UHE1H471MHD6
designator C?, comment 470uF  (value not drawn)
CAP ALUM 470UF 20% 50V RADIAL; Part Number: UHE1H471MHD6; Manufacturer: Nichicon; TemperatureRange: -40C ~ 105C; Type: Polar; Ripple Current: 1.162A @ 120Hz; Impedance: 45 mOhm; Value: 470uF; PartId: 22902; Supplier 1: Digi-Key; Supplier Part Number 1: 493-1614-ND; ComponentLink1Description: Datasheet; ComponentLink1URL: http://nichicon-us.com/english/products/pdfs/e-uhe.pdf; ComponentLink2Description: Digi-Key Listing; ComponentLink2URL: https://www.digikey.com/product-detail/en/nichicon/UHE1H471MHD6/493-1614-ND/589355; Tolerance: 20%; Voltage: 50V; Price: 0; Device Package: Radial, Can, 12.5mm
footprint CAP AL TH D12.5 L5 H20
pins: 1, 2

## UHE1H471MHD6TO
designator C?, comment 470uF  (value not drawn)
CAP ALUM 470UF 20% 50V RADIAL; Part Number: UHE1H471MHD6TO; Manufacturer: Nichicon; TemperatureRange: -40C ~ 105C; Type: Polar; Ripple Current: 1.245A @ 120Hz; Impedance: 45 mOhm; Value: 470uF; PartId: 23171; Supplier 1: Digi-Key; Supplier Part Number 1: 493-14550-3-ND; ComponentLink1Description: Datasheet; ComponentLink1URL: http://nichicon-us.com/english/products/pdfs/e-uhe.pdf; ComponentLink2Description: Digi-Key Listing; ComponentLink2URL: https://www.digikey.com/product-detail/en/nichicon/UHE1H471MHD6TO/493-14550-3-ND/4992366; Tolerance: 20%; Voltage: 50V; Price: 0.3447; Device Package: Radial, Can, 12.5mm
footprint CAP AL TH D12.5 L5 H22
pins: 1, 2

## UHE1H681MHD
designator C?, comment 680uF  (value not drawn)
CAP ALUM 680UF 20% 50V RADIAL; Part Number: UHE1H681MHD; Manufacturer: Nichicon; TemperatureRange: -40C ~ 105C; Type: Polar; Ripple Current: 1.617A @ 120Hz; Impedance: 30 mOhm; Value: 680uF; PartId: 24249; Supplier 1: Digi-Key; Supplier Part Number 1: 493-1618-ND; ComponentLink1Description: Datasheet; ComponentLink1URL: http://nichicon-us.com/english/products/pdfs/e-uhe.pdf; ComponentLink2Description: Digi-Key Listing; ComponentLink2URL: https://www.digikey.com/product-detail/en/nichicon/UHE1H681MHD/493-1618-ND/589359; Tolerance: 20%; Voltage: 50V; Price: 1.02; Device Package: Radial, Can, 12.5mm
footprint CAP AL TH D12.5 L5 H35.5
pins: 1, 2

## UHE1H821MHD6
designator C?, comment 820uF  (value not drawn)
CAP ALUM 820UF 20% 50V RADIAL; Part Number: UHE1H821MHD6; Manufacturer: Nichicon; TemperatureRange: -40C ~ 105C; Type: Polar; Ripple Current: 1.547A @ 120Hz; Impedance: 34 mOhm; Value: 820uF; PartId: 26292; Supplier 1: Digi-Key; Supplier Part Number 1: 493-1620-ND; ComponentLink1Description: Datasheet; ComponentLink1URL: http://nichicon-us.com/english/products/pdfs/e-uhe.pdf; ComponentLink2Description: Digi-Key Listing; ComponentLink2URL: https://www.digikey.com/product-detail/en/nichicon/UHE1H821MHD6/493-1620-ND/589361; Tolerance: 20%; Voltage: 50V; Price: 1.08; Device Package: Radial, Can, 16mm
footprint CAP AL TH D16 L7.5 H20
pins: 1, 2

## UHE1J102MHD
designator C?, comment 1000uF  (value not drawn)
CAP ALUM 1000UF 20% 63V RADIAL; Part Number: UHE1J102MHD; Manufacturer: Nichicon; TemperatureRange: -40C ~ 105C; Type: Polar; Ripple Current: 1.425A @ 120Hz; Impedance: 45 mOhm; Value: 1000uF; PartId: 27318; Supplier 1: Digi-Key; Supplier Part Number 1: 493-1654-ND; ComponentLink1Description: Datasheet; ComponentLink1URL: http://nichicon-us.com/english/products/pdfs/e-uhe.pdf; ComponentLink2Description: Digi-Key Listing; ComponentLink2URL: https://www.digikey.com/product-detail/en/nichicon/UHE1J102MHD/493-1654-ND/589395; Tolerance: 20%; Voltage: 63V; Price: 1.48; Device Package: Radial, Can, 16mm
footprint CAP AL TH D16 L7.5 H37
pins: 1, 2

## UHE1J121MPD6
designator C?, comment 120uF  (value not drawn)
CAP ALUM 120UF 20% 63V RADIAL; Part Number: UHE1J121MPD6; Manufacturer: Nichicon; TemperatureRange: -40C ~ 105C; Type: Polar; Ripple Current: 280mA @ 120Hz; Impedance: 310 mOhm; Value: 120uF; PartId: 25229; Supplier 1: Digi-Key; Supplier Part Number 1: 493-1637-ND; ComponentLink1Description: Datasheet; ComponentLink1URL: http://nichicon-us.com/english/products/pdfs/e-uhe.pdf; ComponentLink2Description: Digi-Key Listing; ComponentLink2URL: https://www.digikey.com/product-detail/en/nichicon/UHE1J121MPD6/493-1637-ND/589378; Tolerance: 20%; Voltage: 63V; Price: 0.55; Device Package: Radial, Can, 10mm
footprint CAP AL TH D10 L5 H17.5
pins: 1, 2

## UHE1J181MHD6
designator C?, comment 180uF  (value not drawn)
CAP ALUM 180UF 20% 63V RADIAL; Part Number: UHE1J181MHD6; Manufacturer: Nichicon; TemperatureRange: -40C ~ 105C; Type: Polar; Ripple Current: 368.9mA @ 120Hz; Impedance: 230 mOhm; Value: 180uF; PartId: 22714; Supplier 1: Digi-Key; Supplier Part Number 1: 493-1639-ND; ComponentLink1Description: Datasheet; ComponentLink1URL: http://nichicon-us.com/english/products/pdfs/e-uhe.pdf; ComponentLink2Description: Digi-Key Listing; ComponentLink2URL: https://www.digikey.com/product-detail/en/nichicon/UHE1J181MHD6/493-1639-ND/589380; Tolerance: 20%; Voltage: 63V; Price: 0; Device Package: Radial, Can, 12.5mm
footprint CAP AL TH D12.5 L5 H15
pins: 1, 2

## UHE1J181MPD
designator C?, comment 180uF  (value not drawn)
CAP ALUM 180UF 20% 63V RADIAL; Part Number: UHE1J181MPD; Manufacturer: Nichicon; TemperatureRange: -40C ~ 105C; Type: Polar; Ripple Current: 362.6mA @ 120Hz; Impedance: 210 mOhm; Value: 180uF; PartId: 25655; Supplier 1: Digi-Key; Supplier Part Number 1: 493-1638-ND; ComponentLink1Description: Datasheet; ComponentLink1URL: http://nichicon-us.com/english/products/pdfs/e-uhe.pdf; ComponentLink2Description: Digi-Key Listing; ComponentLink2URL: https://www.digikey.com/product-detail/en/nichicon/UHE1J181MPD/493-1638-ND/589379; Tolerance: 20%; Voltage: 63V; Price: 0.74; Device Package: Radial, Can, 10mm
footprint CAP AL TH D10 L5 H22
pins: 1, 2

## UHE1J221MPD
designator C?, comment 220uF  (value not drawn)
CAP ALUM 220UF 20% 63V RADIAL; Part Number: UHE1J221MPD; Manufacturer: Nichicon; TemperatureRange: -40C ~ 105C; Type: Polar; Ripple Current: 416.5mA @ 120Hz; Impedance: 200 mOhm; Value: 220uF; PartId: 26099; Supplier 1: Digi-Key; Supplier Part Number 1: 493-1640-ND; ComponentLink1Description: Datasheet; ComponentLink1URL: http://nichicon-us.com/english/products/pdfs/e-uhe.pdf; ComponentLink2Description: Digi-Key Listing; ComponentLink2URL: https://www.digikey.com/product-detail/en/nichicon/UHE1J221MPD/493-1640-ND/589381; Tolerance: 20%; Voltage: 63V; Price: 0.75; Device Package: Radial, Can, 10mm
footprint CAP AL TH D10 L5 H30
pins: 1, 2

## UHE1J271MHD3
designator C?, comment 270uF  (value not drawn)
CAP ALUM 270UF 20% 63V RADIAL; Part Number: UHE1J271MHD3; Manufacturer: Nichicon; TemperatureRange: -40C ~ 105C; Type: Polar; Ripple Current: 626.5mA @ 120Hz; Impedance: 140 mOhm; Value: 270uF; PartId: 26214; Supplier 1: Digi-Key; Supplier Part Number 1: 493-1643-ND; ComponentLink1Description: Datasheet; ComponentLink1URL: http://nichicon-us.com/english/products/pdfs/e-uhe.pdf; ComponentLink2Description: Digi-Key Listing; ComponentLink2URL: https://www.digikey.com/product-detail/en/nichicon/UHE1J271MHD3/493-1643-ND/589384; Tolerance: 20%; Voltage: 63V; Price: 1.04; Device Package: Radial, Can, 16mm
footprint CAP AL TH D16 L7.5 H16.5
pins: 1, 2

## UHE1J271MHD6
designator C?, comment 270uF  (value not drawn)
CAP ALUM 270UF 20% 63V RADIAL; Part Number: UHE1J271MHD6; Manufacturer: Nichicon; TemperatureRange: -40C ~ 105C; Type: Polar; Ripple Current: 612mA @ 120Hz; Impedance: 160 mOhm; Value: 270uF; PartId: 22882; Supplier 1: Digi-Key; Supplier Part Number 1: 493-1642-ND; ComponentLink1Description: Datasheet; ComponentLink1URL: http://nichicon-us.com/english/products/pdfs/e-uhe.pdf; ComponentLink2Description: Digi-Key Listing; ComponentLink2URL: https://www.digikey.com/product-detail/en/nichicon/UHE1J271MHD6/493-1642-ND/589383; Tolerance: 20%; Voltage: 63V; Price: 0; Device Package: Radial, Can, 12.5mm
footprint CAP AL TH D12.5 L5 H20
pins: 1, 2

## UHE1J331MHD
designator C?, comment 330uF  (value not drawn)
CAP ALUM 330UF 20% 63V RADIAL; Part Number: UHE1J331MHD; Manufacturer: Nichicon; TemperatureRange: -40C ~ 105C; Type: Polar; Ripple Current: 612.5mA @ 120Hz; Impedance: 120 mOhm; Value: 330uF; PartId: 23544; Supplier 1: Digi-Key; Supplier Part Number 1: 493-1644-ND; ComponentLink1Description: Datasheet; ComponentLink1URL: http://nichicon-us.com/english/products/pdfs/e-uhe.pdf; ComponentLink2Description: Digi-Key Listing; ComponentLink2URL: https://www.digikey.com/product-detail/en/nichicon/UHE1J331MHD/493-1644-ND/589385; Tolerance: 20%; Voltage: 63V; Price: 0.83; Device Package: Radial, Can, 12.5mm
footprint CAP AL TH D12.5 L5 H25
pins: 1, 2

## UHE1J471MHD
designator C?, comment 470uF  (value not drawn)
CAP ALUM 470UF 20% 63V RADIAL; Part Number: UHE1J471MHD; Manufacturer: Nichicon; TemperatureRange: -40C ~ 105C; Type: Polar; Ripple Current: 757.5mA @ 120Hz; Impedance: 100 mOhm; Value: 470uF; PartId: 24206; Supplier 1: Digi-Key; Supplier Part Number 1: 493-1646-ND; ComponentLink1Description: Datasheet; ComponentLink1URL: http://nichicon-us.com/english/products/pdfs/e-uhe.pdf; ComponentLink2Description: Digi-Key Listing; ComponentLink2URL: https://www.digikey.com/product-detail/en/nichicon/UHE1J471MHD/493-1646-ND/589387; Tolerance: 20%; Voltage: 63V; Price: 0.91; Device Package: Radial, Can, 12.5mm
footprint CAP AL TH D12.5 L5 H35.5
pins: 1, 2

## UHE1J471MHD6
designator C?, comment 470uF  (value not drawn)
CAP ALUM 470UF 20% 63V RADIAL; Part Number: UHE1J471MHD6; Manufacturer: Nichicon; TemperatureRange: -40C ~ 105C; Type: Polar; Ripple Current: 847.5mA @ 120Hz; Impedance: 91 mOhm; Value: 470uF; PartId: 26289; Supplier 1: Digi-Key; Supplier Part Number 1: 493-1647-ND; ComponentLink1Description: Datasheet; ComponentLink1URL: http://nichicon-us.com/english/products/pdfs/e-uhe.pdf; ComponentLink2Description: Digi-Key Listing; ComponentLink2URL: https://www.digikey.com/product-detail/en/nichicon/UHE1J471MHD6/493-1647-ND/589388; Tolerance: 20%; Voltage: 63V; Price: 1.06; Device Package: Radial, Can, 16mm
footprint CAP AL TH D16 L7.5 H20
pins: 1, 2

## UHE1J561MHD
designator C?, comment 560uF  (value not drawn)
CAP ALUM 560UF 20% 63V RADIAL; Part Number: UHE1J561MHD; Manufacturer: Nichicon; TemperatureRange: -40C ~ 105C; Type: Polar; Ripple Current: 855mA @ 120Hz; Impedance: 83 mOhm; Value: 560uF; PartId: 24239; Supplier 1: Digi-Key; Supplier Part Number 1: 493-1648-ND; ComponentLink1Description: Datasheet; ComponentLink1URL: http://nichicon-us.com/english/products/pdfs/e-uhe.pdf; ComponentLink2Description: Digi-Key Listing; ComponentLink2URL: https://www.digikey.com/product-detail/en/nichicon/UHE1J561MHD/493-1648-ND/589389; Tolerance: 20%; Voltage: 63V; Price: 1.01; Device Package: Radial, Can, 12.5mm
footprint CAP AL TH D12.5 L5 H35.5
pins: 1, 2

## UHE1J561MHD6
designator C?, comment 560uF  (value not drawn)
CAP ALUM 560UF 20% 63V RADIAL; Part Number: UHE1J561MHD6; Manufacturer: Nichicon; TemperatureRange: -40C ~ 105C; Type: Polar; Ripple Current: 1.0125A @ 120Hz; Impedance: 73 mOhm; Value: 560uF; PartId: 26557; Supplier 1: Digi-Key; Supplier Part Number 1: 493-1649-ND; ComponentLink1Description: Datasheet; ComponentLink1URL: http://nichicon-us.com/english/products/pdfs/e-uhe.pdf; ComponentLink2Description: Digi-Key Listing; ComponentLink2URL: https://www.digikey.com/product-detail/en/nichicon/UHE1J561MHD6/493-1649-ND/589390; Tolerance: 20%; Voltage: 63V; Price: 1.09; Device Package: Radial, Can, 16mm
footprint CAP AL TH D16 L7.5 H26.5
pins: 1, 2

## UHE1J821MHD
designator C?, comment 820uF  (value not drawn)
CAP ALUM 820UF 20% 63V RADIAL; Part Number: UHE1J821MHD; Manufacturer: Nichicon; TemperatureRange: -40C ~ 105C; Type: Polar; Ripple Current: 1.2375A @ 120Hz; Impedance: 54 mOhm; Value: 820uF; PartId: 27001; Supplier 1: Digi-Key; Supplier Part Number 1: 493-1652-ND; ComponentLink1Description: Datasheet; ComponentLink1URL: http://nichicon-us.com/english/products/pdfs/e-uhe.pdf; ComponentLink2Description: Digi-Key Listing; ComponentLink2URL: https://www.digikey.com/product-detail/en/nichicon/UHE1J821MHD/493-1652-ND/589393; Tolerance: 20%; Voltage: 63V; Price: 1.34; Device Package: Radial, Can, 16mm
footprint CAP AL TH D16 L7.5 H33.5
pins: 1, 2